# Altium integrated library ADC8350.IntLib: 1 symbol
Pins are listed as number, name and electrical type; pins without a type are passive.

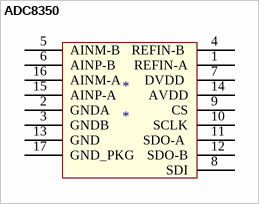
[diagram p0: symbol ADC8350]

## ADC8350
designator *
footprint QFN50P300X300X80-17N
pins: 1 REFIN-A, 2 GNDA, 3 GNDB, 4 REFIN-B , 5 AINM-B, 6 AINP-B, 7 DVDD , 8 SDI, 9 CS, 10 SCLK, 11 SDO-A , 12 SDO-B, 13 GND, 14 AVDD, 15 AINP-A, 16 AINM-A, 17 GND_PKG